# Altium footprint library AD Operational Amplifier.PcbLib: 63 footprints (part 4 of 4)
Each footprint in its own frame and in the unit in brackets; x right, y up, seen from the top. Pads: shape width x height; smd on the part's side, far side on the other; paste and mask are expansions set on the pad; w line width, h text height; cw(c..) or ccw(c..) is an arc to the next point about the centre after c.
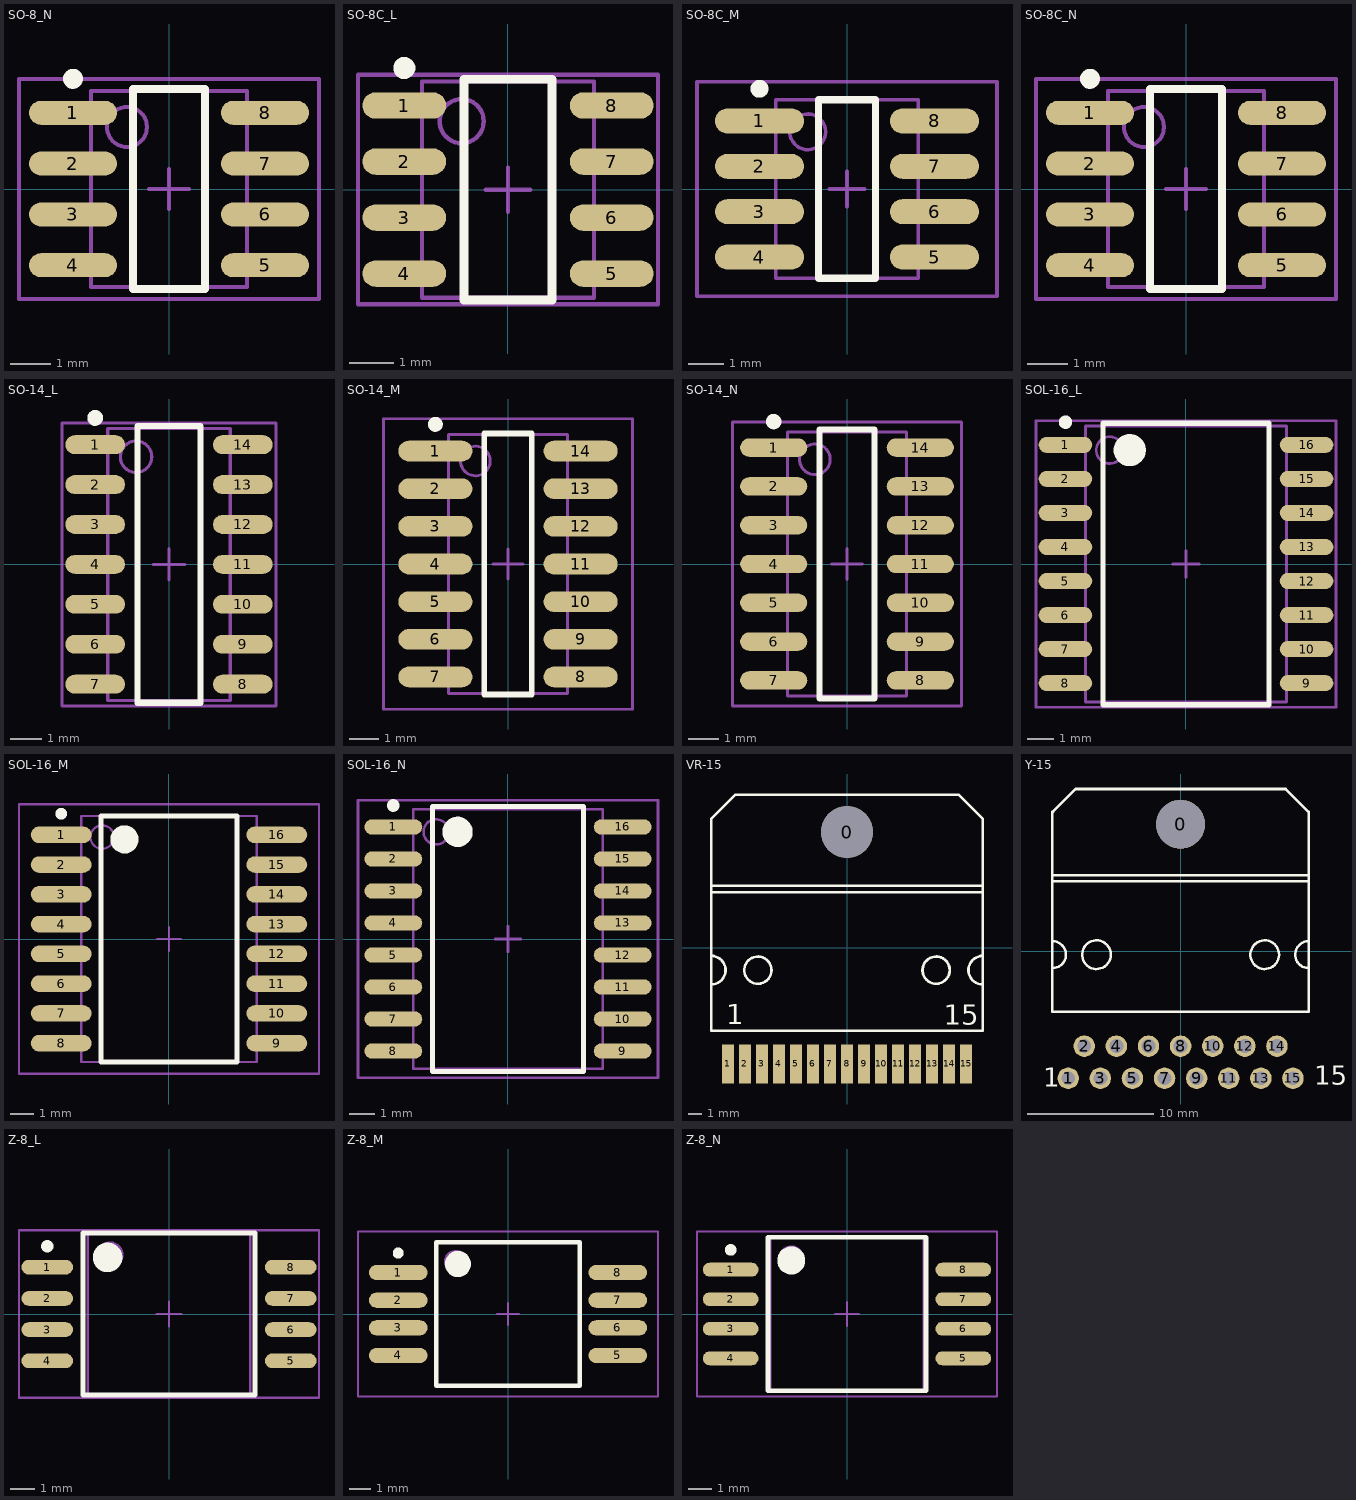
[diagram p3: the footprints below, top view; thin cyan lines are the x and y axes]

## SO-8_N [mm] "SOIC, 8-Leads, Body 4.9x3.9mm, Pitch 1.27mm, IPC Medium Density"
height 1.75
pads (8):
  oval 2.2x0.6 smd: 1(-2.4,1.905) 2(-2.4,0.635) 3(-2.4,-0.635) 4(-2.4,-1.905) 5(2.4,-1.905) 6(2.4,-0.635) 7(2.4,0.635) 8(2.4,1.905)
Top Overlay:
  circle w0.25: c-2.4,2.755 r0.125
  lines w0.2: -0.9,-2.5 -0.9,2.5 0.9,2.5 0.9,-2.5 -0.9,-2.5
Mechanical 13:
  circle w0.1: c-1.05,1.55 r0.5
  lines w0.1: -1.95,-2.45 -1.95,2.45 1.95,2.45 1.95,-2.45 -1.95,-2.45
Mechanical 15:
  lines w0.1: -0.5,0 0.5,0 ; 0,-0.5 0,0.5 ; -3.75,-2.75 -3.75,2.75 3.75,2.75 3.75,-2.75 -3.75,-2.75
3D body: height 1.75, standoff 0, extent -1.95,-2.45 1.95,2.45

## SO-8C_L [mm] "SOIC, 8-Leads, Body 4.9x3.9mm, Pitch 1.27mm, IPC High Density"
height 1.75
pads (8):
  oval 1.9x0.6 smd: 1(-2.35,1.905) 2(-2.35,0.635) 3(-2.35,-0.635) 4(-2.35,-1.905) 5(2.35,-1.905) 6(2.35,-0.635) 7(2.35,0.635) 8(2.35,1.905)
Top Overlay:
  circle w0.25: c-2.35,2.755 r0.125
  lines w0.2: -1,-2.5 1,-2.5 1,2.5 -1,2.5 -1,-2.5
Mechanical 13:
  circle w0.1: c-1.05,1.55 r0.5
  lines w0.1: -1.95,-2.45 1.95,-2.45 1.95,2.45 -1.95,2.45 -1.95,-2.45
Mechanical 15:
  lines w0.1: -0.5,0 0.5,0 ; 0,-0.5 0,0.5 ; -3.4,-2.6 3.4,-2.6 3.4,2.6 -3.4,2.6 -3.4,-2.6
3D body: height 1.75, standoff 0, extent -1.95,-2.45 1.95,2.45

## SO-8C_M [mm] "SOIC, 8-Leads, Body 4.9x3.9mm, Pitch 1.27mm, IPC Low Density"
height 1.75
pads (8):
  oval 2.5x0.7 smd: 1(-2.45,1.905) 2(-2.45,0.635) 3(-2.45,-0.635) 4(-2.45,-1.905) 5(2.45,-1.905) 6(2.45,-0.635) 7(2.45,0.635) 8(2.45,1.905)
Top Overlay:
  circle w0.25: c-2.45,2.805 r0.125
  lines w0.2: -0.8,-2.5 -0.8,2.5 0.8,2.5 0.8,-2.5 -0.8,-2.5
Mechanical 13:
  circle w0.1: c-1.1,1.6 r0.5
  lines w0.1: -2,-2.5 -2,2.5 2,2.5 2,-2.5 -2,-2.5
Mechanical 15:
  lines w0.1: -0.5,0 0.5,0 ; 0,-0.5 0,0.5 ; -4.2,-3 -4.2,3 4.2,3 4.2,-3 -4.2,-3
3D body: height 1.75, standoff 0, extent -2,-2.5 2,2.5

## SO-8C_N [mm] "SOIC, 8-Leads, Body 4.9x3.9mm, Pitch 1.27mm, IPC Medium Density"
height 1.75
pads (8):
  oval 2.2x0.6 smd: 1(-2.4,1.905) 2(-2.4,0.635) 3(-2.4,-0.635) 4(-2.4,-1.905) 5(2.4,-1.905) 6(2.4,-0.635) 7(2.4,0.635) 8(2.4,1.905)
Top Overlay:
  circle w0.25: c-2.4,2.755 r0.125
  lines w0.2: -0.9,-2.5 -0.9,2.5 0.9,2.5 0.9,-2.5 -0.9,-2.5
Mechanical 13:
  circle w0.1: c-1.05,1.55 r0.5
  lines w0.1: -1.95,-2.45 -1.95,2.45 1.95,2.45 1.95,-2.45 -1.95,-2.45
Mechanical 15:
  lines w0.1: -0.5,0 0.5,0 ; 0,-0.5 0,0.5 ; -3.75,-2.75 -3.75,2.75 3.75,2.75 3.75,-2.75 -3.75,-2.75
3D body: height 1.75, standoff 0, extent -1.95,-2.45 1.95,2.45

## SO-14_L [mm] "SOIC, 14-Leads, Body 8.7x3.9mm, Pitch 1.27mm, IPC High Density"
height 1.75
pads (14):
  oval 1.9x0.6 smd: 1(-2.35,3.81) 2(-2.35,2.54) 3(-2.35,1.27) 4(-2.35,0) 5(-2.35,-1.27) 6(-2.35,-2.54) 7(-2.35,-3.81) 8(2.35,-3.81) 9(2.35,-2.54) 10(2.35,-1.27) 11(2.35,0) 12(2.35,1.27) 13(2.35,2.54) 14(2.35,3.81)
Top Overlay:
  circle w0.25: c-2.35,4.66 r0.125
  lines w0.2: -1,-4.4 1,-4.4 1,4.4 -1,4.4 -1,-4.4
Mechanical 13:
  circle w0.1: c-1.05,3.425 r0.5
  lines w0.1: -1.95,-4.325 1.95,-4.325 1.95,4.325 -1.95,4.325 -1.95,-4.325
Mechanical 15:
  lines w0.1: -0.5,0 0.5,0 ; 0,-0.5 0,0.5 ; -3.4,-4.5 3.4,-4.5 3.4,4.5 -3.4,4.5 -3.4,-4.5
3D body: height 1.75, standoff 0, extent -1.95,-4.325 1.95,4.325

## SO-14_M [mm] "SOIC, 14-Leads, Body 8.7x3.9mm, Pitch 1.27mm, IPC Low Density"
height 1.75
pads (14):
  oval 2.5x0.7 smd: 1(-2.45,3.81) 2(-2.45,2.54) 3(-2.45,1.27) 4(-2.45,0) 5(-2.45,-1.27) 6(-2.45,-2.54) 7(-2.45,-3.81) 8(2.45,-3.81) 9(2.45,-2.54) 10(2.45,-1.27) 11(2.45,0) 12(2.45,1.27) 13(2.45,2.54) 14(2.45,3.81)
Top Overlay:
  circle w0.25: c-2.45,4.71 r0.125
  lines w0.2: -0.8,-4.4 -0.8,4.4 0.8,4.4 0.8,-4.4 -0.8,-4.4
Mechanical 13:
  circle w0.1: c-1.1,3.475 r0.5
  lines w0.1: -2,-4.375 -2,4.375 2,4.375 2,-4.375 -2,-4.375
Mechanical 15:
  lines w0.1: -0.5,0 0.5,0 ; 0,-0.5 0,0.5 ; -4.2,-4.9 -4.2,4.9 4.2,4.9 4.2,-4.9 -4.2,-4.9
3D body: height 1.75, standoff 0, extent -2,-4.375 2,4.375

## SO-14_N [mm] "SOIC, 14-Leads, Body 8.7x3.9mm, Pitch 1.27mm, IPC Medium Density"
height 1.75
pads (14):
  oval 2.2x0.6 smd: 1(-2.4,3.81) 2(-2.4,2.54) 3(-2.4,1.27) 4(-2.4,0) 5(-2.4,-1.27) 6(-2.4,-2.54) 7(-2.4,-3.81) 8(2.4,-3.81) 9(2.4,-2.54) 10(2.4,-1.27) 11(2.4,0) 12(2.4,1.27) 13(2.4,2.54) 14(2.4,3.81)
Top Overlay:
  circle w0.25: c-2.4,4.66 r0.125
  lines w0.2: -0.9,-4.4 -0.9,4.4 0.9,4.4 0.9,-4.4 -0.9,-4.4
Mechanical 13:
  circle w0.1: c-1.05,3.425 r0.5
  lines w0.1: -1.95,-4.325 -1.95,4.325 1.95,4.325 1.95,-4.325 -1.95,-4.325
Mechanical 15:
  lines w0.1: -0.5,0 0.5,0 ; 0,-0.5 0,0.5 ; -3.75,-4.65 -3.75,4.65 3.75,4.65 3.75,-4.65 -3.75,-4.65
3D body: height 1.75, standoff 0, extent -1.95,-4.325 1.95,4.325

## SOL-16_L [mm] "SOIC, 16-Leads, Body 10.3x7.5mm, Pitch 1.27mm, IPC High Density"
height 2.65
pads (16):
  oval 2x0.6 smd: 1(-4.5,4.445) 2(-4.5,3.175) 3(-4.5,1.905) 4(-4.5,0.635) 5(-4.5,-0.635) 6(-4.5,-1.905) 7(-4.5,-3.175) 8(-4.5,-4.445) 9(4.5,-4.445) 10(4.5,-3.175) 11(4.5,-1.905) 12(4.5,-0.635) 13(4.5,0.635) 14(4.5,1.905) 15(4.5,3.175) 16(4.5,4.445)
Top Overlay:
  circle w0.25: c-4.5,5.295 r0.125
  circle w0.6: c-2.1,4.25 r0.3
  lines w0.2: -3.1,-5.25 -3.1,5.25 3.1,5.25 3.1,-5.25 -3.1,-5.25
Mechanical 13:
  circle w0.1: c-2.85,4.25 r0.5
  lines w0.1: -3.75,-5.15 -3.75,5.15 3.75,5.15 3.75,-5.15 -3.75,-5.15
Mechanical 15:
  lines w0.1: -0.5,0 0.5,0 ; 0,-0.5 0,0.5 ; -5.6,-5.35 -5.6,5.35 5.6,5.35 5.6,-5.35 -5.6,-5.35
3D body: height 2.65, standoff 0, extent -3.75,-5.15 3.75,5.15

## SOL-16_M [mm] "SOIC, 16-Leads, Body 10.3x7.5mm, Pitch 1.27mm, IPC Low Density"
height 2.65
pads (16):
  oval 2.6x0.7 smd: 1(-4.6,4.445) 2(-4.6,3.175) 3(-4.6,1.905) 4(-4.6,0.635) 5(-4.6,-0.635) 6(-4.6,-1.905) 7(-4.6,-3.175) 8(-4.6,-4.445) 9(4.6,-4.445) 10(4.6,-3.175) 11(4.6,-1.905) 12(4.6,-0.635) 13(4.6,0.635) 14(4.6,1.905) 15(4.6,3.175) 16(4.6,4.445)
Top Overlay:
  circle w0.25: c-4.6,5.345 r0.125
  circle w0.6: c-1.9,4.25 r0.3
  lines w0.2: -2.9,-5.25 -2.9,5.25 2.9,5.25 2.9,-5.25 -2.9,-5.25
Mechanical 13:
  circle w0.1: c-2.85,4.35 r0.5
  lines w0.1: -3.75,-5.25 -3.75,5.25 3.75,5.25 3.75,-5.25 -3.75,-5.25
Mechanical 15:
  lines w0.1: -0.5,0 0.5,0 ; 0,-0.5 0,0.5 ; -6.4,-5.75 -6.4,5.75 6.4,5.75 6.4,-5.75 -6.4,-5.75
3D body: height 2.65, standoff 0, extent -3.75,-5.25 3.75,5.25

## SOL-16_N [mm] "SOIC, 16-Leads, Body 10.3x7.5mm, Pitch 1.27mm, IPC Medium Density"
height 2.65
pads (16):
  oval 2.3x0.6 smd: 1(-4.55,4.445) 2(-4.55,3.175) 3(-4.55,1.905) 4(-4.55,0.635) 5(-4.55,-0.635) 6(-4.55,-1.905) 7(-4.55,-3.175) 8(-4.55,-4.445) 9(4.55,-4.445) 10(4.55,-3.175) 11(4.55,-1.905) 12(4.55,-0.635) 13(4.55,0.635) 14(4.55,1.905) 15(4.55,3.175) 16(4.55,4.445)
Top Overlay:
  circle w0.25: c-4.55,5.295 r0.125
  circle w0.6: c-2,4.25 r0.3
  lines w0.2: -3,-5.25 -3,5.25 3,5.25 3,-5.25 -3,-5.25
Mechanical 13:
  circle w0.1: c-2.85,4.25 r0.5
  lines w0.1: -3.75,-5.15 -3.75,5.15 3.75,5.15 3.75,-5.15 -3.75,-5.15
Mechanical 15:
  lines w0.1: -0.5,0 0.5,0 ; 0,-0.5 0,0.5 ; -5.95,-5.5 -5.95,5.5 5.95,5.5 5.95,-5.5 -5.95,-5.5
3D body: height 2.65, standoff 0, extent -3.75,-5.15 3.75,5.15

## VR-15 [mm] "TO, SM, Horizontal, Heatsink Mounted; 15 Leads; Pitch 1.27 mm"
height 4.62
pads (16):
  round 3.86 hole 3.86: 0(0,8.66)
  rect 0.9x2.9 smd: 1(-8.89,-8.66) 2(-7.62,-8.66) 3(-6.35,-8.66) 4(-5.08,-8.66) 5(-3.81,-8.66) 6(-2.54,-8.66) 7(-1.27,-8.66) 8(0,-8.66) 9(1.27,-8.66) 10(2.54,-8.66) 11(3.81,-8.66) 12(5.08,-8.66) 13(6.35,-8.66) 14(7.62,-8.66) 15(8.89,-8.66)
Top Overlay:
  circle w0.2: c-6.656,-1.656 r1.016
  circle w0.2: c6.656,-1.656 r1.016
  lines w0.2: -10.135,-2.722 ccw(c-10.135,-1.656) -10.135,-0.59 ; -10.135,4.17 10.135,4.17 ; -10.135,4.64 10.135,4.64 ; 10.13,9.66 8.34,11.45 -8.34,11.45 -10.13,9.66 -10.135,9.66 -10.135,-6.18 10.135,-6.18 10.135,9.66 ; 10.135,-2.722 cw(c10.135,-1.656) 10.135,-0.59
  text "1" at -9.012,-5.701 h1.5
  text "15" at 7.223,-5.741 h1.5

## Y-15 [mm] "TO, Thru-Hole, Horizontal, Heatsink Mounted; 15 Bent Staggered Leads; Pitch 1.27 mm"
height 4.62
pads (16):
  round 3.86 hole 3.86: 0(0,10.045)
  round 1.7 hole 1.1: 1(-8.89,-10.045) 2(-7.62,-7.505) 3(-6.35,-10.045) 4(-5.08,-7.505) 5(-3.81,-10.045) 6(-2.54,-7.505) 7(-1.27,-10.045) 8(0,-7.505) 9(1.27,-10.045) 10(2.54,-7.505) 11(3.81,-10.045) 12(5.08,-7.505) 13(6.35,-10.045) 14(7.62,-7.505) 15(8.89,-10.045)
Top Overlay:
  circle w0.2: c6.656,-0.271 r1.136
  circle w0.2: c-6.656,-0.271 r1.136
  lines w0.2: -10.135,-1.336 ccw(c-10.135,-0.271) -10.135,0.795 ; -10.135,5.555 10.135,5.555 ; -10.135,6.025 10.135,6.025 ; -10.135,11.05 -10.135,11.045 -10.135,-4.794 10.135,-4.795 10.135,11.045 ; -10.09,11.045 -8.3,12.836 8.3,12.836 10.09,11.045 ; 10.135,-1.336 cw(c10.135,-0.271) 10.135,0.795
  text "1" at -10.863,-10.731 h1.5
  text "15" at 10.554,-10.556 h1.5

## Z-8_L [mm] "SOP, 8-Leads, Body 6.5x6.5mm, Pitch 1.27mm, IPC High Density"
height 2.49
pads (8):
  oval 2.1x0.6 smd: 1(-4.95,1.905) 2(-4.95,0.635) 3(-4.95,-0.635) 4(-4.95,-1.905) 5(4.95,-1.905) 6(4.95,-0.635) 7(4.95,0.635) 8(4.95,1.905)
Top Overlay:
  circle w0.25: c-4.95,2.755 r0.125
  circle w0.6: c-2.5,2.3 r0.3
  lines w0.2: -3.5,-3.3 -3.5,3.3 3.5,3.3 3.5,-3.3 -3.5,-3.3
Mechanical 13:
  circle w0.1: c-2.4,2.4 r0.5
  lines w0.1: -3.3,-3.3 -3.3,3.3 3.3,3.3 3.3,-3.3 -3.3,-3.3
Mechanical 15:
  lines w0.1: -0.5,0 0.5,0 ; 0,-0.5 0,0.5 ; -6.1,-3.4 -6.1,3.4 6.1,3.4 6.1,-3.4 -6.1,-3.4
3D body: height 2.49, standoff 0, extent -3.3,-3.3 3.3,3.3

## Z-8_M [mm] "SOP, 8-Leads, Body 6.5x6.5mm, Pitch 1.27mm, IPC Low Density"
height 2.49
pads (8):
  oval 2.7x0.7 smd: 1(-5.05,1.905) 2(-5.05,0.635) 3(-5.05,-0.635) 4(-5.05,-1.905) 5(5.05,-1.905) 6(5.05,-0.635) 7(5.05,0.635) 8(5.05,1.905)
Top Overlay:
  circle w0.25: c-5.05,2.805 r0.125
  circle w0.6: c-2.3,2.3 r0.3
  lines w0.2: -3.3,-3.3 -3.3,3.3 3.3,3.3 3.3,-3.3 -3.3,-3.3
Mechanical 13:
  circle w0.1: c-2.4,2.4 r0.5
  lines w0.1: -3.3,-3.3 -3.3,3.3 3.3,3.3 3.3,-3.3 -3.3,-3.3
Mechanical 15:
  lines w0.1: -0.5,0 0.5,0 ; 0,-0.5 0,0.5 ; -6.9,-3.8 -6.9,3.8 6.9,3.8 6.9,-3.8 -6.9,-3.8
3D body: height 2.49, standoff 0, extent -3.3,-3.3 3.3,3.3

## Z-8_N [mm] "SOP, 8-Leads, Body 6.5x6.5mm, Pitch 1.27mm, IPC Medium Density"
height 2.49
pads (8):
  oval 2.4x0.6 smd: 1(-5,1.905) 2(-5,0.635) 3(-5,-0.635) 4(-5,-1.905) 5(5,-1.905) 6(5,-0.635) 7(5,0.635) 8(5,1.905)
Top Overlay:
  circle w0.25: c-5,2.755 r0.125
  circle w0.6: c-2.4,2.3 r0.3
  lines w0.2: -3.4,-3.3 -3.4,3.3 3.4,3.3 3.4,-3.3 -3.4,-3.3
Mechanical 13:
  circle w0.1: c-2.4,2.4 r0.5
  lines w0.1: -3.3,-3.3 -3.3,3.3 3.3,3.3 3.3,-3.3 -3.3,-3.3
Mechanical 15:
  lines w0.1: -0.5,0 0.5,0 ; 0,-0.5 0,0.5 ; -6.45,-3.55 -6.45,3.55 6.45,3.55 6.45,-3.55 -6.45,-3.55
3D body: height 2.49, standoff 0, extent -3.3,-3.3 3.3,3.3